# Altium footprint library ESD.PcbLib: 1 footprints
Each footprint in its own frame and in the unit in brackets; x right, y up, seen from the top. Pads: shape width x height; smd on the part's side, far side on the other; paste and mask are expansions set on the pad; w line width, h text height; cw(c..) or ccw(c..) is an arc to the next point about the centre after c.
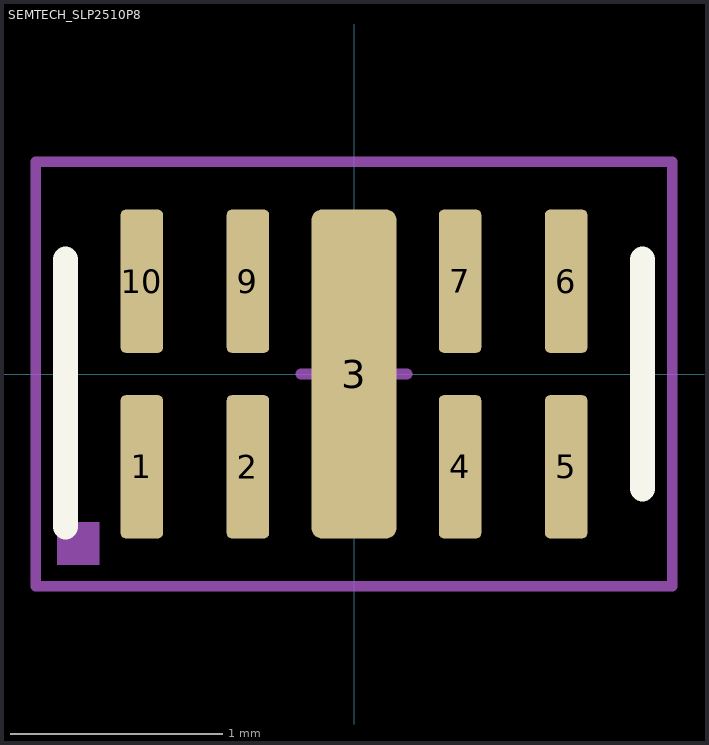
[diagram p0: the footprint, top view; thin cyan lines are the x and y axes]

## SEMTECH_SLP2510P8 [mm] "Semtech array ESD package"
height 0.65
pads (9):
  rrect23% 0.2x0.675 smd mask+0.038: 1(-1,-0.437) 2(-0.5,-0.438) 4(0.5,-0.437) 5(1,-0.437) 6(1,0.437) 7(0.5,0.437) 9(-0.5,0.437) 10(-1,0.437)
  rrect23% 0.4x1.55 smd mask+0.038: 3(0,0)
Top Overlay:
  lines w0.12: -1.36,-0.72 -1.36,0.54 ; 1.36,-0.54 1.36,0.54
15. Courtyard TOP:
  lines w0.05: -0.25,0 0.25,0 ; 0,-0.25 0,0.25 ; -1.5,-1 -1.5,1 1.5,1 1.5,-1 -1.5,-1
18. Assembly TOP:
  region: -1.4,-0.9 -1.4,-0.7 -1.2,-0.7 -1.2,-0.9
  lines w0.05: -1.5,-1 -1.5,1 1.5,1 1.5,-1 -1.5,-1
  text ".designator" at -1.375,-0.375 h0.7
3D body: height 0.65, standoff 0, extent -1.3,-0.6 1.3,0.6